# Altium footprint library Inductor_SMD.PcbLib: 587 footprints (part 4 of 37)
Each footprint in its own frame and in the unit in brackets; x right, y up, seen from the top. Pads: shape width x height; smd on the part's side, far side on the other; paste and mask are expansions set on the pad; w line width, h text height; cw(c..) or ccw(c..) is an arc to the next point about the centre after c.
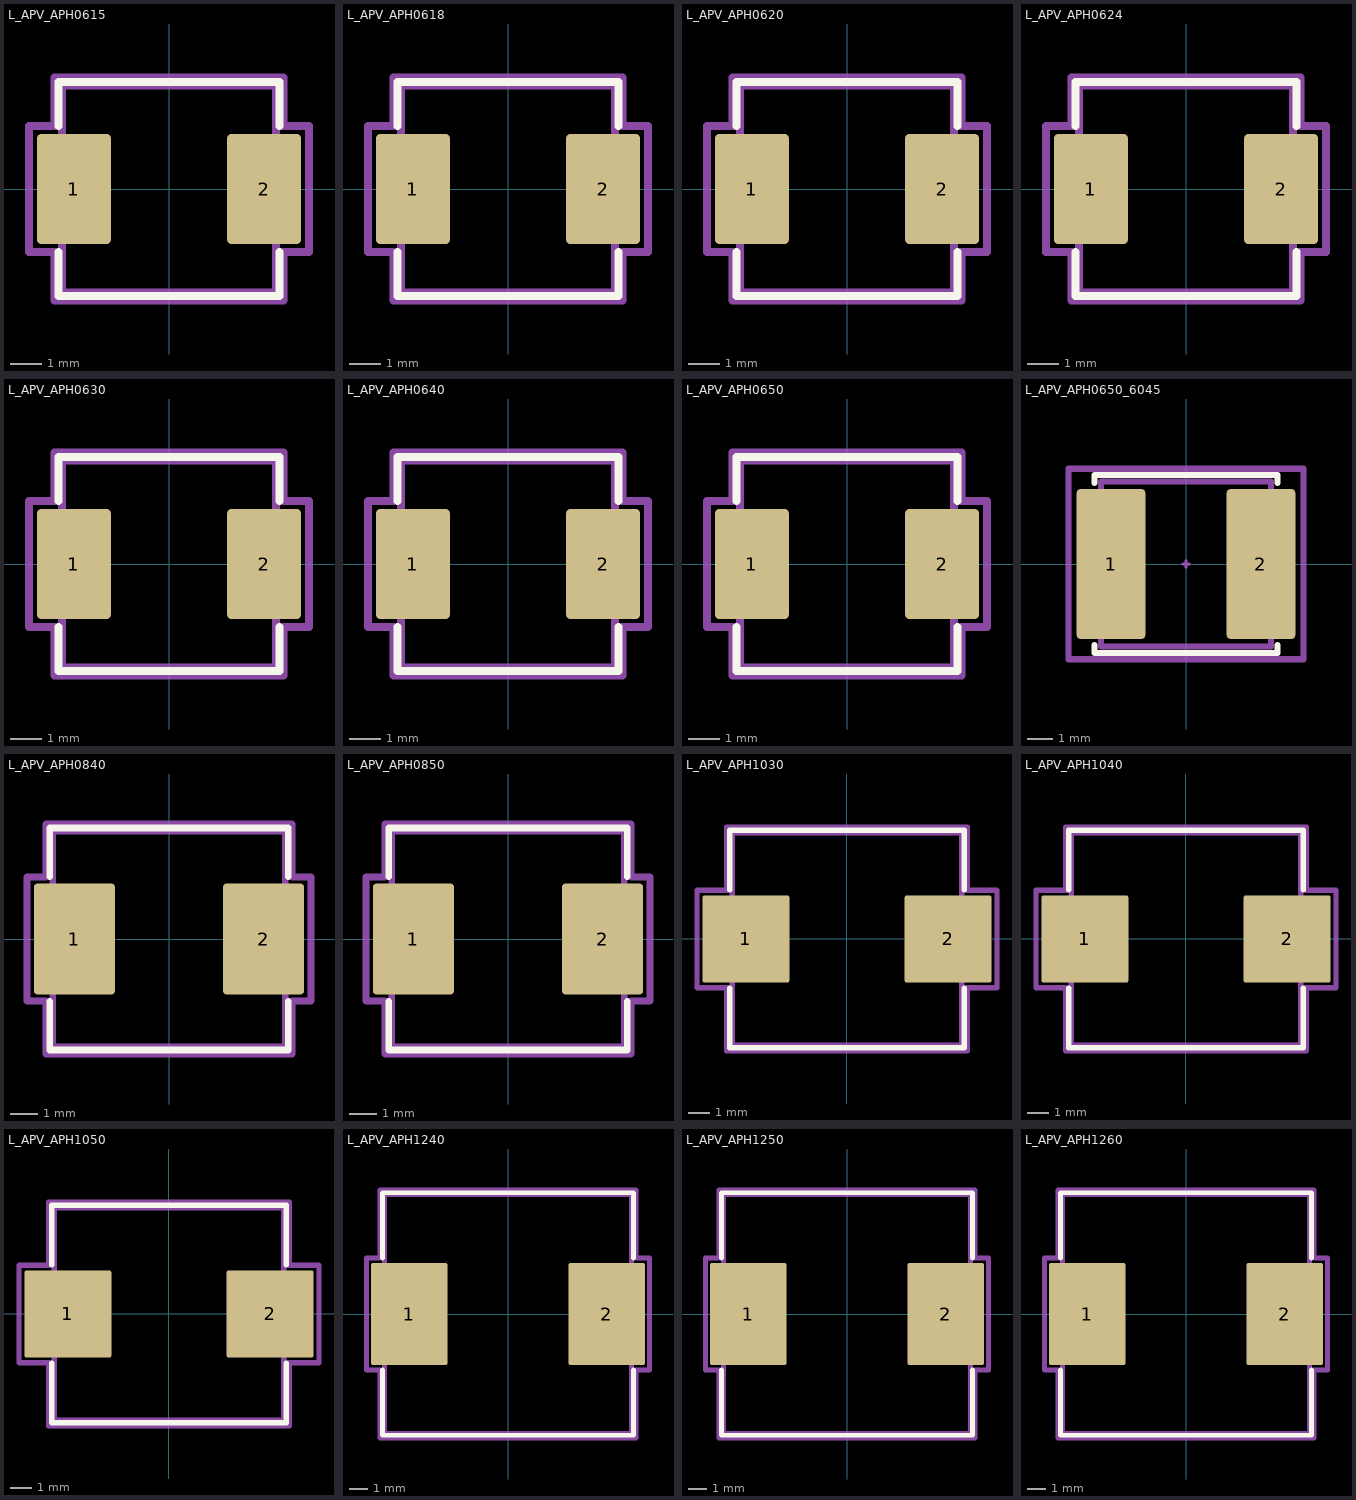
[diagram p3: the footprints below, top view; thin cyan lines are the x and y axes]

## L_APV_APH0615 [mm] "L_APV_APH0615"
pads (2):
  rrect11% 2.35x3.5 smd: 1(-3.025,0) 2(3.025,0)
F.SilkS:
  lines w0.254: -3.51,-2.01 -3.51,-3.41 3.51,-3.41 3.51,-2.01 ; -3.51,2.01 -3.51,3.41 3.51,3.41 3.51,2.01
Top Assembly:
  lines w0.254: -3.4,-3.3 3.4,-3.3 3.4,3.3 -3.4,3.3 -3.4,-3.3
Top Courtyard:
  lines w0.254: -4.45,-2 -3.65,-2 -3.65,-3.55 3.65,-3.55 3.65,-2 4.45,-2 4.45,2 3.65,2 3.65,3.55 -3.65,3.55 -3.65,2 -4.45,2 -4.45,-2
Top Designator:
  text ".Designator" at -3.434,-0.345 h1.52
3D body "L_APV_APH0615.step": height 1.3, standoff 0, extent -3.51,-3.3 3.51,3.3

## L_APV_APH0618 [mm] "L_APV_APH0618"
pads (2):
  rrect11% 2.35x3.5 smd: 1(-3.025,0) 2(3.025,0)
F.SilkS:
  lines w0.254: -3.51,-2.01 -3.51,-3.41 3.51,-3.41 3.51,-2.01 ; -3.51,2.01 -3.51,3.41 3.51,3.41 3.51,2.01
Top Assembly:
  lines w0.254: -3.4,-3.3 3.4,-3.3 3.4,3.3 -3.4,3.3 -3.4,-3.3
Top Courtyard:
  lines w0.254: -4.45,-2 -3.65,-2 -3.65,-3.55 3.65,-3.55 3.65,-2 4.45,-2 4.45,2 3.65,2 3.65,3.55 -3.65,3.55 -3.65,2 -4.45,2 -4.45,-2
Top Designator:
  text ".Designator" at -3.434,-0.345 h1.52
3D body "L_APV_APH0618.step": height 1.6, standoff 0, extent -3.51,-3.3 3.51,3.3

## L_APV_APH0620 [mm] "L_APV_APH0620"
pads (2):
  rrect11% 2.35x3.5 smd: 1(-3.025,0) 2(3.025,0)
F.SilkS:
  lines w0.254: -3.51,-2.01 -3.51,-3.41 3.51,-3.41 3.51,-2.01 ; -3.51,2.01 -3.51,3.41 3.51,3.41 3.51,2.01
Top Assembly:
  lines w0.254: -3.4,-3.3 -3.4,3.3 3.4,3.3 3.4,-3.3 -3.4,-3.3
Top Courtyard:
  lines w0.254: -4.45,-2 -4.45,2 -3.65,2 -3.65,3.55 3.65,3.55 3.65,2 4.45,2 4.45,-2 3.65,-2 3.65,-3.55 -3.65,-3.55 -3.65,-2 -4.45,-2
Top Designator:
  text ".Designator" at -3.434,-0.345 h1.52
3D body "L_APV_APH0620.step": height 1.8, standoff 0, extent -3.51,-3.3 3.51,3.3

## L_APV_APH0624 [mm] "L_APV_APH0624"
pads (2):
  rrect11% 2.35x3.5 smd: 1(-3.025,0) 2(3.025,0)
F.SilkS:
  lines w0.254: -3.51,-2.01 -3.51,-3.41 3.51,-3.41 3.51,-2.01 ; -3.51,2.01 -3.51,3.41 3.51,3.41 3.51,2.01
Top Assembly:
  lines w0.254: -3.4,-3.3 -3.4,3.3 3.4,3.3 3.4,-3.3 -3.4,-3.3
Top Courtyard:
  lines w0.254: -4.45,-2 -4.45,2 -3.65,2 -3.65,3.55 3.65,3.55 3.65,2 4.45,2 4.45,-2 3.65,-2 3.65,-3.55 -3.65,-3.55 -3.65,-2 -4.45,-2
Top Designator:
  text ".Designator" at -3.434,-0.345 h1.52
Top 3D Body:
3D body "L_APV_APH0624.step": height 2.2, standoff 0, extent -3.51,-3.3 3.51,3.3

## L_APV_APH0630 [mm] "L_APV_APH0630"
pads (2):
  rrect11% 2.35x3.5 smd: 1(-3.025,0) 2(3.025,0)
F.SilkS:
  lines w0.254: -3.51,-2.01 -3.51,-3.41 3.51,-3.41 3.51,-2.01 ; -3.51,2.01 -3.51,3.41 3.51,3.41 3.51,2.01
Top Assembly:
  lines w0.254: -3.4,-3.3 -3.4,3.3 3.4,3.3 3.4,-3.3 -3.4,-3.3
Top Courtyard:
  lines w0.254: -4.45,-2 -4.45,2 -3.65,2 -3.65,3.55 3.65,3.55 3.65,2 4.45,2 4.45,-2 3.65,-2 3.65,-3.55 -3.65,-3.55 -3.65,-2 -4.45,-2
Top Designator:
  text ".Designator" at -3.434,-0.345 h1.52
3D body "L_APV_APH0630.step": height 2.8, standoff 0, extent -3.51,-3.3 3.51,3.3

## L_APV_APH0640 [mm] "L_APV_APH0640"
pads (2):
  rrect11% 2.35x3.5 smd: 1(-3.025,0) 2(3.025,0)
F.SilkS:
  lines w0.254: -3.51,-2.01 -3.51,-3.41 3.51,-3.41 3.51,-2.01 ; -3.51,2.01 -3.51,3.41 3.51,3.41 3.51,2.01
Top Assembly:
  lines w0.254: -3.4,-3.3 -3.4,3.3 3.4,3.3 3.4,-3.3 -3.4,-3.3
Top Courtyard:
  lines w0.254: -4.45,-2 -4.45,2 -3.65,2 -3.65,3.55 3.65,3.55 3.65,2 4.45,2 4.45,-2 3.65,-2 3.65,-3.55 -3.65,-3.55 -3.65,-2 -4.45,-2
Top Designator:
  text ".Designator" at -3.434,-0.345 h1.52
3D body "L_APV_APH0640.step": height 3.8, standoff 0, extent -3.51,-3.3 3.51,3.3

## L_APV_APH0650 [mm] "L_APV_APH0650"
pads (2):
  rrect11% 2.35x3.5 smd: 1(-3.025,0) 2(3.025,0)
F.SilkS:
  lines w0.254: -3.51,-2.01 -3.51,-3.41 3.51,-3.41 3.51,-2.01 ; -3.51,2.01 -3.51,3.41 3.51,3.41 3.51,2.01
Top Assembly:
  lines w0.254: -3.4,-3.3 -3.4,3.3 3.4,3.3 3.4,-3.3 -3.4,-3.3
Top Courtyard:
  lines w0.254: -4.45,-2 -4.45,2 -3.65,2 -3.65,3.55 3.65,3.55 3.65,2 4.45,2 4.45,-2 3.65,-2 3.65,-3.55 -3.65,-3.55 -3.65,-2 -4.45,-2
Top Designator:
  text ".Designator" at -3.434,-0.345 h1.52
3D body "L_APV_APH0650.step": height 4.8, standoff 0, extent -3.51,-3.3 3.51,3.3

## L_APV_APH0650_6045 [mm] "L_APV_APH0650_6045 it have both"
pads (2):
  rrect11% 2.75x6 smd: 1(-3,0) 2(3,0)
F.SilkS:
  lines w0.254: -3.66,-3.25 -3.66,-3.56 3.66,-3.56 3.66,-3.25 ; -3.66,3.25 -3.66,3.56 3.66,3.56 3.66,3.25
Top Component Center:
  lines w0.127: -0.127,0 0.127,0 ; 0,-0.127 0,0.127
Top Assembly:
  lines w0.254: -3.4,-3.3 3.4,-3.3 3.4,3.3 -3.4,3.3 -3.4,-3.3
Top Courtyard:
  lines w0.254: -4.699,-3.81 -4.699,3.81 4.699,3.81 4.699,-3.81 -4.699,-3.81
Top Designator:
  text "'.Designator'" at -3.17,-0.658 h0.78
3D body "L_APV_APH0650.step": height 4.8, standoff 0, extent -3.51,-3.3 3.51,3.3

## L_APV_APH0840 [mm] "L_APV_APH0840"
pads (2):
  rrect8% 3x4.1 smd: 1(-3.5,0) 2(3.5,0)
F.SilkS:
  lines w0.254: -4.41,-2.31 -4.41,-4.11 4.41,-4.11 4.41,-2.31 ; -4.41,2.31 -4.41,4.11 4.41,4.11 4.41,2.31
Top Assembly:
  lines w0.254: -4.3,-4 4.3,-4 4.3,4 -4.3,4 -4.3,-4
Top Courtyard:
  lines w0.254: -5.25,-2.3 -4.55,-2.3 -4.55,-4.25 4.55,-4.25 4.55,-2.3 5.25,-2.3 5.25,2.3 4.55,2.3 4.55,4.25 -4.55,4.25 -4.55,2.3 -5.25,2.3 -5.25,-2.3
Top Designator:
  text ".Designator" at -3.434,-0.345 h1.52
3D body "L_APV_APH0840.step": height 3.8, standoff 0, extent -4.41,-4 4.41,4

## L_APV_APH0850 [mm] "L_APV_APH0850"
pads (2):
  rrect8% 3x4.1 smd: 1(-3.5,0) 2(3.5,0)
F.SilkS:
  lines w0.254: -4.41,-2.31 -4.41,-4.11 4.41,-4.11 4.41,-2.31 ; -4.41,2.31 -4.41,4.11 4.41,4.11 4.41,2.31
Top Assembly:
  lines w0.254: -4.3,-4 -4.3,4 4.3,4 4.3,-4 -4.3,-4
Top Courtyard:
  lines w0.254: -5.25,-2.3 -5.25,2.3 -4.55,2.3 -4.55,4.25 4.55,4.25 4.55,2.3 5.25,2.3 5.25,-2.3 4.55,-2.3 4.55,-4.25 -4.55,-4.25 -4.55,-2.3 -5.25,-2.3
Top Designator:
  text ".Designator" at -3.434,-0.345 h1.52
3D body "L_APV_APH0850.step": height 4.8, standoff 0, extent -4.41,-4 4.41,4

## L_APV_APH1030 [mm] "L_APV_APH1030"
pads (2):
  rrect6% 4.1x4.1 smd: 1(-4.75,0) 2(4.75,0)
F.SilkS:
  lines w0.254: -5.51,-2.31 -5.51,-5.11 5.51,-5.11 5.51,-2.31 ; -5.51,2.31 -5.51,5.11 5.51,5.11 5.51,2.31
Top Assembly:
  lines w0.254: -5.4,-5 5.4,-5 5.4,5 -5.4,5 -5.4,-5
Top Courtyard:
  lines w0.254: -7.05,-2.3 -5.65,-2.3 -5.65,-5.25 5.65,-5.25 5.65,-2.3 7.05,-2.3 7.05,2.3 5.65,2.3 5.65,5.25 -5.65,5.25 -5.65,2.3 -7.05,2.3 -7.05,-2.3
Top Designator:
  text ".Designator" at -3.434,-0.345 h1.52
3D body "L_APV_APH1030.step": height 2.8, standoff 0, extent -5.51,-5 5.51,5

## L_APV_APH1040 [mm] "L_APV_APH1040"
pads (2):
  rrect6% 4.1x4.1 smd: 1(-4.75,0) 2(4.75,0)
F.SilkS:
  lines w0.254: -5.51,-2.31 -5.51,-5.11 5.51,-5.11 5.51,-2.31 ; -5.51,2.31 -5.51,5.11 5.51,5.11 5.51,2.31
Top Assembly:
  lines w0.254: -5.4,-5 5.4,-5 5.4,5 -5.4,5 -5.4,-5
Top Courtyard:
  lines w0.254: -7.05,-2.3 -5.65,-2.3 -5.65,-5.25 5.65,-5.25 5.65,-2.3 7.05,-2.3 7.05,2.3 5.65,2.3 5.65,5.25 -5.65,5.25 -5.65,2.3 -7.05,2.3 -7.05,-2.3
Top Designator:
  text ".Designator" at -3.434,-0.345 h1.52
3D body "L_APV_APH1040.step": height 3.8, standoff 0, extent -5.51,-5 5.51,5

## L_APV_APH1050 [mm] "L_APV_APH1050"
pads (2):
  rrect6% 4.1x4.1 smd: 1(-4.75,0) 2(4.75,0)
F.SilkS:
  lines w0.254: -5.51,-2.31 -5.51,-5.11 5.51,-5.11 5.51,-2.31 ; -5.51,2.31 -5.51,5.11 5.51,5.11 5.51,2.31
Top Assembly:
  lines w0.254: -5.4,-5 5.4,-5 5.4,5 -5.4,5 -5.4,-5
Top Courtyard:
  lines w0.254: -7.05,-2.3 -5.65,-2.3 -5.65,-5.25 5.65,-5.25 5.65,-2.3 7.05,-2.3 7.05,2.3 5.65,2.3 5.65,5.25 -5.65,5.25 -5.65,2.3 -7.05,2.3 -7.05,-2.3
Top Designator:
  text ".Designator" at -3.434,-0.345 h1.52
3D body "L_APV_APH1050.step": height 4.8, standoff 0, extent -5.51,-5 5.51,5

## L_APV_APH1240 [mm] "L_APV_APH1240"
pads (2):
  rrect6% 4.1x5.5 smd: 1(-5.3,0) 2(5.3,0)
F.SilkS:
  lines w0.254: -6.735,-3.01 -6.735,-6.51 6.735,-6.51 6.735,-3.01 ; -6.735,3.01 -6.735,6.51 6.735,6.51 6.735,3.01
Top Assembly:
  lines w0.254: -6.625,-6.4 -6.625,6.4 6.625,6.4 6.625,-6.4 -6.625,-6.4
Top Courtyard:
  lines w0.254: -7.6,-3 -7.6,3 -6.88,3 -6.88,6.65 6.88,6.65 6.88,3 7.6,3 7.6,-3 6.88,-3 6.88,-6.65 -6.88,-6.65 -6.88,-3 -7.6,-3
Top Designator:
  text ".Designator" at -3.434,-0.345 h1.52
3D body "L_APV_APH1240.step": height 3.8, standoff 0, extent -6.735,-6.4 6.735,6.4

## L_APV_APH1250 [mm] "L_APV_APH1250"
pads (2):
  rrect6% 4.1x5.5 smd: 1(-5.3,0) 2(5.3,0)
F.SilkS:
  lines w0.254: -6.735,-3.01 -6.735,-6.51 6.735,-6.51 6.735,-3.01 ; -6.735,3.01 -6.735,6.51 6.735,6.51 6.735,3.01
Top Assembly:
  lines w0.254: -6.625,-6.4 6.625,-6.4 6.625,6.4 -6.625,6.4 -6.625,-6.4
Top Courtyard:
  lines w0.254: -7.6,-3 -6.88,-3 -6.88,-6.65 6.88,-6.65 6.88,-3 7.6,-3 7.6,3 6.88,3 6.88,6.65 -6.88,6.65 -6.88,3 -7.6,3 -7.6,-3
Top Designator:
  text ".Designator" at -3.434,-0.345 h1.52
3D body "L_APV_APH1250.step": height 4.8, standoff 0, extent -6.735,-6.4 6.735,6.4

## L_APV_APH1260 [mm] "L_APV_APH1260"
pads (2):
  rrect6% 4.1x5.5 smd: 1(-5.3,0) 2(5.3,0)
F.SilkS:
  lines w0.254: -6.735,-3.01 -6.735,-6.51 6.735,-6.51 6.735,-3.01 ; -6.735,3.01 -6.735,6.51 6.735,6.51 6.735,3.01
Top Assembly:
  lines w0.254: -6.625,-6.4 6.625,-6.4 6.625,6.4 -6.625,6.4 -6.625,-6.4
Top Courtyard:
  lines w0.254: -7.6,-3 -6.88,-3 -6.88,-6.65 6.88,-6.65 6.88,-3 7.6,-3 7.6,3 6.88,3 6.88,6.65 -6.88,6.65 -6.88,3 -7.6,3 -7.6,-3
Top Designator:
  text ".Designator" at -3.434,-0.345 h1.52
3D body "L_APV_APH1260.step": height 5.8, standoff 0, extent -6.735,-6.4 6.735,6.4